# Altium integrated library lg.IntLib: 1 symbol
Pins are listed as number, name and electrical type; pins without a type are passive.

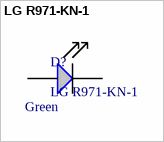
[diagram p0: symbol LG R971-KN-1]

## LG R971-KN-1
designator D?  Color: Green
LED, 0805, Green
footprint LG R971-KN-1 (LED Green, 0805)
pins: 1, 2